# Altium integrated library pedals-microcontrollers.IntLib: 5 symbols
Pins are listed as number, name and electrical type; pins without a type are passive.

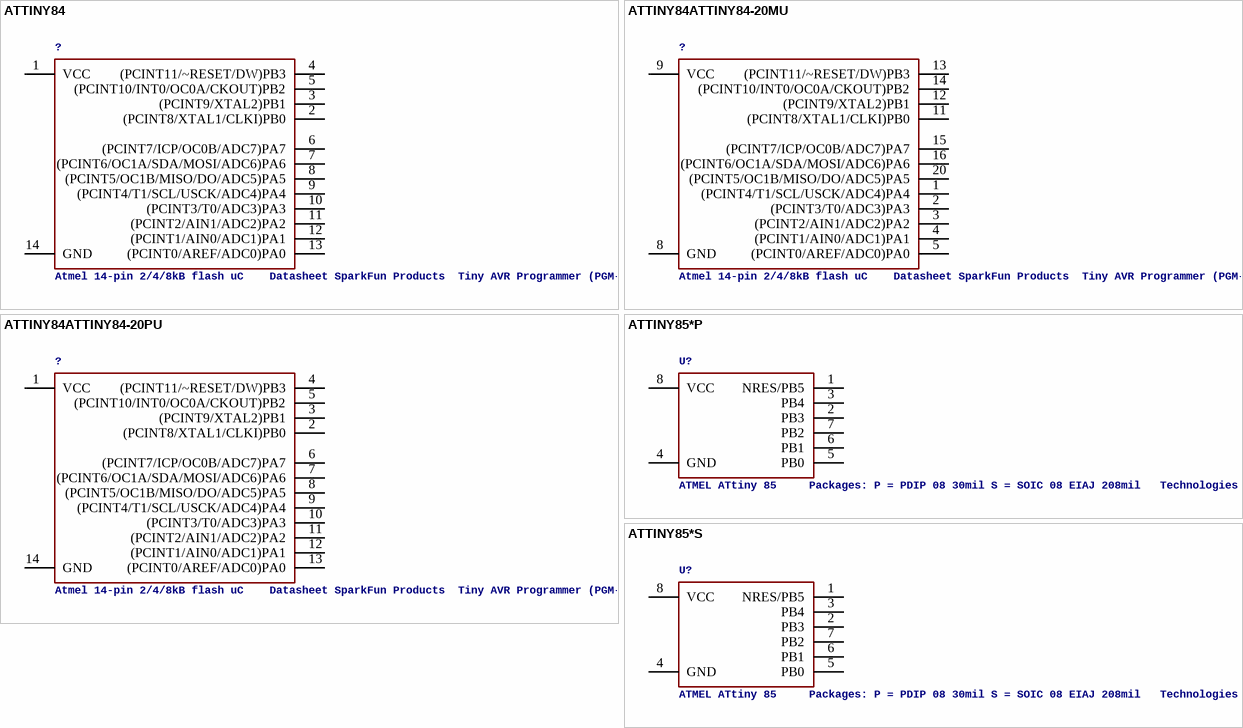
[diagram p0: symbols ATTINY84 to ATTINY85*S]

## ATTINY84
designator ?, comment Atmel 14-pin 2/4/8kB flash uC    Datasheet SparkFun Products  Tiny AVR Programmer (PGM-11801)  SparkFun Servo Trigger - Continuous Rotation (WIG-13872)  SparkFun Servo Trigger (WIG-13118)
PROD_ID: IC-11285
footprint SO14
pins: 1 VCC, 2 (PCINT8/XTAL1/CLKI)PB0, 3 (PCINT9/XTAL2)PB1, 4 (PCINT11/~RESET/DW)PB3, 5 (PCINT10/INT0/OC0A/CKOUT)PB2, 6 (PCINT7/ICP/OC0B/ADC7)PA7, 7 (PCINT6/OC1A/SDA/MOSI/ADC6)PA6, 8 (PCINT5/OC1B/MISO/DO/ADC5)PA5, 9 (PCINT4/T1/SCL/USCK/ADC4)PA4, 10 (PCINT3/T0/ADC3)PA3, 11 (PCINT2/AIN1/ADC2)PA2, 12 (PCINT1/AIN0/ADC1)PA1, 13 (PCINT0/AREF/ADC0)PA0, 14 GND

## ATTINY84ATTINY84-20MU
designator ?, comment Atmel 14-pin 2/4/8kB flash uC    Datasheet SparkFun Products  Tiny AVR Programmer (PGM-11801)  SparkFun Servo Trigger - Continuous Rotation (WIG-13872)  SparkFun Servo Trigger (WIG-13118)
footprint QFN20
pins: 1 (PCINT4/T1/SCL/USCK/ADC4)PA4, 2 (PCINT3/T0/ADC3)PA3, 3 (PCINT2/AIN1/ADC2)PA2, 4 (PCINT1/AIN0/ADC1)PA1, 5 (PCINT0/AREF/ADC0)PA0, 8 GND, 9 VCC, 11 (PCINT8/XTAL1/CLKI)PB0, 12 (PCINT9/XTAL2)PB1, 13 (PCINT11/~RESET/DW)PB3, 14 (PCINT10/INT0/OC0A/CKOUT)PB2, 15 (PCINT7/ICP/OC0B/ADC7)PA7, 16 (PCINT6/OC1A/SDA/MOSI/ADC6)PA6, 20 (PCINT5/OC1B/MISO/DO/ADC5)PA5

## ATTINY84ATTINY84-20PU
designator ?, comment Atmel 14-pin 2/4/8kB flash uC    Datasheet SparkFun Products  Tiny AVR Programmer (PGM-11801)  SparkFun Servo Trigger - Continuous Rotation (WIG-13872)  SparkFun Servo Trigger (WIG-13118)
footprint DIP14
pins: 1 VCC, 2 (PCINT8/XTAL1/CLKI)PB0, 3 (PCINT9/XTAL2)PB1, 4 (PCINT11/~RESET/DW)PB3, 5 (PCINT10/INT0/OC0A/CKOUT)PB2, 6 (PCINT7/ICP/OC0B/ADC7)PA7, 7 (PCINT6/OC1A/SDA/MOSI/ADC6)PA6, 8 (PCINT5/OC1B/MISO/DO/ADC5)PA5, 9 (PCINT4/T1/SCL/USCK/ADC4)PA4, 10 (PCINT3/T0/ADC3)PA3, 11 (PCINT2/AIN1/ADC2)PA2, 12 (PCINT1/AIN0/ADC1)PA1, 13 (PCINT0/AREF/ADC0)PA0, 14 GND

## ATTINY85*P
designator U?, comment ATMEL ATtiny 85     Packages: P = PDIP 08 30mil S = SOIC 08 EIAJ 208mil   Technologies Note: for complete ordering code  (temp. range, finish, tape&reel etc.) see www.atmel.com &bull; Supply Voltage:   V = (1.8&hellip;5.5)V ¦ [blank] = (2.7&hellip;5.5)V &bull; Speed:   10 = 10 MHz ¦ 20 = 20 MHz    Author: Dipl.-Ing. FH Rainer Bayer HHN Hochschule Heilbronn (Heilbronn University), rainer.bayer@hs-heilbronn.de IngenieurbÃ¼ro ing-rb, mail@ing-rb.de
footprint PDIP08_300MIL
pins: 1 NRES/PB5, 2 PB3, 3 PB4, 4 GND (power), 5 PB0, 6 PB1, 7 PB2, 8 VCC (power)

## ATTINY85*S
designator U?, comment ATMEL ATtiny 85     Packages: P = PDIP 08 30mil S = SOIC 08 EIAJ 208mil   Technologies Note: for complete ordering code  (temp. range, finish, tape&reel etc.) see www.atmel.com &bull; Supply Voltage:   V = (1.8&hellip;5.5)V ¦ [blank] = (2.7&hellip;5.5)V &bull; Speed:   10 = 10 MHz ¦ 20 = 20 MHz    Author: Dipl.-Ing. FH Rainer Bayer HHN Hochschule Heilbronn (Heilbronn University), rainer.bayer@hs-heilbronn.de IngenieurbÃ¼ro ing-rb, mail@ing-rb.de
footprint SOIC8_EIAJ_208MIL
pins: 1 NRES/PB5, 2 PB3, 3 PB4, 4 GND (power), 5 PB0, 6 PB1, 7 PB2, 8 VCC (power)